# Altium schematic symbol library CustomComponents.SchLib: 74 symbols
Pins are listed as number, name and electrical type; pins without a type are passive.

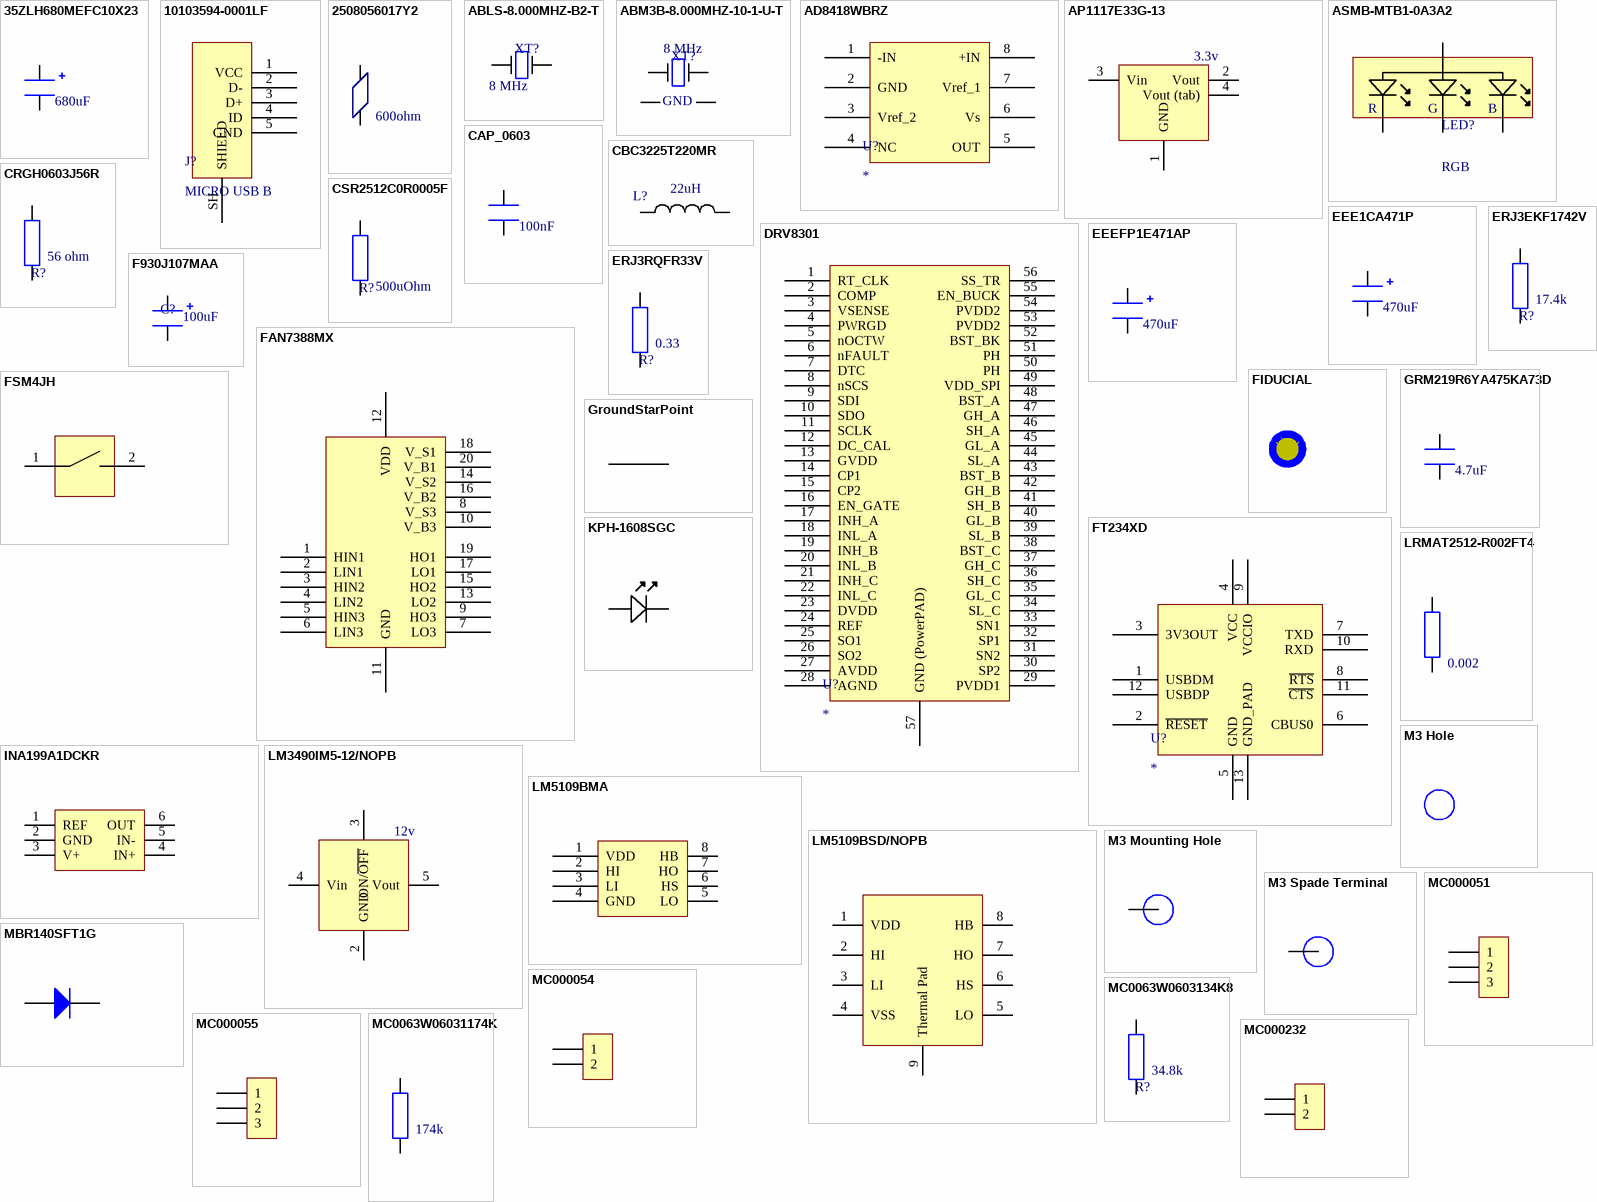
[diagram p0: symbols 35ZLH680MEFC10X23 to MC000232]

## 35ZLH680MEFC10X23
designator C?  value 680uF
CAP, ALU ELEC, 680UF, 35V, RAD; Supplier 1: Farnell; Supplier Part Number 1: 8126771
footprint CAPE10.0MM_Rad_10x14mm (10mm Pitch Radial Capacitor 10x14mm DxH)
pins: 1, 2

## 10103594-0001LF
designator J?, comment MICRO USB B
MICRO USB B, RECEPTACLE, SMT, RA, 5WAY; Supplier 1: Farnell; Supplier Part Number 1: 2293752
footprint USB_0103594-0001LF (Micro USB B connector)
pins: 1 VCC, 2 D-, 3 D+, 4 ID, 5 GND, SH SHIELD

## 2508056017Y2
designator L?  value 600ohm
FERRITE BEAD, 0.1OHM, 2A, 0805; Supplier 1: Farnell; Supplier 2: Farnell; Supplier Part Number 1: 1838838; Supplier Part Number 2: 1838838RL
footprint FBC2012N (Ferrite Bead Chip, Body 2.0x1.2mm, 0805, IPC Medium Density)
pins: 1, 2

## ABLS-8.000MHZ-B2-T
designator XT?  value 8 MHz  (hidden comment: *)
Crystal 8.0000MHz 20ppm 18pF 80 Ohm -20°C - 70°C Surface Mount HC49/US
footprint CRYSTAL_HC49-US-SM (SMD Crystal HC49/US-SM package)
pins: 1 IN, 2 OUT

## ABM3B-8.000MHZ-10-1-U-T
designator XT?  value 8 MHz  (hidden comment: *)
Crystal 8MHz ±10ppm 10pF 200 Ohm -10°C ~ 60°C Surface Mount 4-SMD, No Lead (DFN, LCC)
footprint DFN220P320X110-4N (DFN, 4-Leads, Body 5.00x3.20mm, Pitch 2.20mm, IPC Medium Density)
pins: 1, 2, 3, 4
text: GND

## AD8418WBRZ
designator U?
ANALOG DEVICES Current Sense Amplifier, Bidirectional, 1, 130 µA, NSOIC
footprint SOIC127P600X175-8N (SOIC, 8-Leads, Body 4.90x3.90mm, Pitch 1.27mm, IPC Medium Density)
pins: 1 -IN, 2 GND, 3 Vref_2, 4 NC, 5 OUT, 6 Vs, 7 Vref_1, 8 +IN

## AP1117E33G-13
designator U?  value 3.3v
IC, LDO, REG, 3.3V, SOT223; Supplier 1: Farnell; Supplier 2: Farnell; Supplier Part Number 1: 1825291RL; Supplier Part Number 2: 1825291
footprint SOT223 (SOT223 /SC-73)
pins: 1 GND, 2 Vout, 3 Vin, 4 Vout (tab)

## ASMB-MTB1-0A3A2
designator LED?, comment RGB
LED, HB, RGB, 0.09W, PLCC-4; Supplier 1: Farnell; Supplier Part Number 1: 2401106
footprint ASMB-MTB1
pins: 1 R, 2 G, 3 B, 4 A

## CAP_0603
designator C?, comment value 100nF  (hidden comment: General 0603 capacitor)
CAP General 0603
footprint 1608[0603] (Chip Capacitor, Body 1.6x0.8mm, IPC High Density)
pins: 1, 2

## CBC3225T220MR
designator L?  value 22uH  (hidden comment: CBC3225T220MR)
Inductor 22uH, 780 ma, 351 mohm, 1210; Supplier 1: Digi-Key; Supplier Part Number 1: 587-1626-1-ND; Supplier 2: Mouser; Supplier Part Number 2: 963-CBC3225T220MR; Supplier 3: Farnell; Supplier Part Number 3: 2309152
pins: 1, 2

## CRGH0603J56R
designator R?  value 56 ohm
RESISTOR, POWER, 56R, 0.2W, 5%, 0603; Supplier 1: Farnell; Supplier 2: Farnell; Supplier Part Number 1: 2331709; Supplier Part Number 2: 2331709RL
footprint RESC1608X55N (Chip Resistor, Body 1.6x0.8mm, EIA 0603, IPC Medium Density)
pins: 1 0, 2 0

## CSR2512C0R0005F
designator R?  value 500uOhm  (hidden comment: CSR2512C0R0005F)
RES SMD 0.0005 OHM 1% 3W 2512
footprint RESC6432X09N (Chip Resistor, 2-Leads, Body 6.40x3.20mm, IPC Medium Density)
pins: 1 0, 2 0

## DRV8301
designator U?
MOTOR DRIVER, 3PH, 56HTSSOP
footprint TSSOP50P810X120_HS-57N (TSSOP, 56-Leads, Body 14.00x6.10mm, Pitch 0.50mm, Thermal Pad 6.35x3.61mm, IPC Medium Density)
pins: 1 RT_CLK, 2 COMP, 3 VSENSE, 4 PWRGD, 5 nOCTW, 6 nFAULT, 7 DTC, 8 nSCS, 9 SDI, 10 SDO, 11 SCLK, 12 DC_CAL, 13 GVDD, 14 CP1, 15 CP2, 16 EN_GATE, 17 INH_A, 18 INL_A, 19 INH_B, 20 INL_B, 21 INH_C, 22 INL_C, 23 DVDD, 24 REF, 25 SO1, 26 SO2, 27 AVDD, 28 AGND, 29 PVDD1, 30 SP2, 31 SN2, 32 SP1, 33 SN1, 34 SL_C, 35 GL_C, 36 SH_C, 37 GH_C, 38 BST_C, 39 SL_B, 40 GL_B, 41 SH_B, 42 GH_B, 43 BST_B, 44 SL_A, 45 GL_A, 46 SH_A, 47 GH_A, 48 BST_A, 49 VDD_SPI, 50 PH, 51 PH, 52 BST_BK, 53 PVDD2, 54 PVDD2, 55 EN_BUCK, 56 SS_TR, 57 GND (PowerPAD)

## EEE1CA471P
designator C?  value 470uF
CAP, ALU ELEC, 470UF, 16V, SMD; Supplier 1: Farnell; Supplier Part Number 1: 2326123RL; Supplier 2: Farnell; Supplier Part Number 2: 2326123
simulation model CAP (Capacitor)
signal-integrity model Cap
footprint CAP_ELEC_SIZE_G (Capacitor, polarized, aluminum can; 10.0x10.2mm DxH)
pins: 1, 2

## EEEFP1E471AP
designator C?  value 470uF
CAP, FP Series, 470 µF, 25 V, Radial Can - SMD, 10 mm
footprint CAP_ELEC_SIZE_G (Capacitor, polarized, aluminum can; 10.0x10.2mm DxH)
pins: 1, 2

## ERJ3EKF1742V
designator R?  value 17.4k
RESISTOR, 0603, 17K4 1%, 0.1W; Supplier 1: Farnell; Supplier 2: Farnell; Supplier Part Number 1: 2059427RL; Supplier Part Number 2: 2059427
footprint RESC1608X55N (Chip Resistor, Body 1.6x0.8mm, EIA 0603, IPC Medium Density)
pins: 1 0, 2 0

## ERJ3RQFR33V
designator R?  value 0.33
RESISTOR, 0603, 0.1W, 1%, 0R33; Supplier 1: Farnell; Supplier Part Number 1: 1717766RL; Supplier 2: Farnell; Supplier Part Number 2: 1717766
footprint RESC1608X55N (Chip Resistor, Body 1.6x0.8mm, EIA 0603, IPC Medium Density)
pins: 1 0, 2 0

## F930J107MAA
designator C?  value 100uF  (hidden comment: F930J107MAA)
CAP TANT 100UF 6.3V 20% 1206 2Ohm
footprint CAP_POL_1206 (Chip Capacitor, 2-Leads, Body 3.20x1.60mm, IPC Medium Density)
pins: 1, 2

## FAN7388MX
designator U?
MOSFET DRIVER, 3 HALF BRIDGE; Supplier 1: Farnell; Supplier Part Number 1: 2083876
footprint SOIC_20
pins: 1 HIN1, 2 LIN1, 3 HIN2, 4 LIN2, 5 HIN3, 6 LIN3, 7 LO3, 8 V_S3, 9 HO3, 10 V_B3, 11 GND, 12 VDD, 13 LO2, 14 V_S2, 15 HO2, 16 V_B2, 17 LO1, 18 V_S1, 19 HO1, 20 V_B1

## FIDUCIAL
designator FID?
1mm Fiducial with 2mm soldermask, 3mm keepout
footprint FIDUCIAL (1mm fiducial with 3mm keepout)

## FSM4JH
designator SW?
SWITCH, SPNO, 0.05A; Supplier 1: Farnell; Supplier Part Number 1: 1555982
footprint FSM4JH (SWITCH, SPNO, 0.05A)
pins: 1, 2

## FT234XD
designator U?
Supplier 1: Farnell; Supplier Part Number 1: 2419911
footprint SON45P300X90_HS-13N (SON, 12-Leads, Body 3.00x3.00mm, Pitch 0.45mm, Thermal Pad 2.48x1.58mm, IPC Medium Density)
pins: 1 USBDM, 2 ~{RESET}, 3 3V3OUT, 4 VCC, 5 GND, 6 CBUS0, 7 TXD, 8 ~{RTS}, 9 VCCIO, 10 RXD, 11 ~{CTS}, 12 USBDP, 13 GND_PAD

## GRM219R6YA475KA73D
designator C?  value 4.7uF  (hidden comment: *)
CAP CER 4.7UF 35V X5R 0805
footprint CAPC2012X09N (Chip Capacitor, 2-Leads, Body 2.00x1.25mm, IPC Medium Density)
pins: 1, 2

## GroundStarPoint
designator SP?, comment Star Point  (net tie, no BOM)
Wide star point meant for joining ground planes
footprint StarpointWide (Wide star point meant for connecting ground planes)
pins: 1, 2

## INA199A1DCKR
designator U?
CURRENT SENSE AMP, 50V/V, 80KHZ; Supplier 1: Digi-Key; Supplier Part Number 1: 296-27329-1-ND; Supplier 2: Mouser; Supplier Part Number 2: 595-INA199B1DCKT
footprint TSOP65P210X110-6N (TSOP, 6-Leads, Body 2.00x1.25mm, Pitch 0.65mm, IPC Medium Density)
pins: 1 REF, 2 GND, 3 V+, 4 IN+, 5 IN-, 6 OUT

## KPH-1608SGC
designator LED?, comment Green
LED, GREEN, 12MCD, 568NM, SMD; Supplier 1: Farnell; Supplier Part Number 1: 2426215
footprint LED-0603-GREEN
pins: A, K

## LM3490IM5-12/NOPB
designator U?  value 12v
LDO, FIXED, 12V, 0.1A, SOT-23-5; Supplier 1: Farnell; Supplier Part Number 1: 2382985
footprint SOT23-5
pins: 2 GND, 3 ON/~{OFF}, 4 Vin, 5 Vout

## LM5109BMA
designator U?
DRIVER, HALF BRIDGE, 1A PK, SOIC8
footprint SO8_N (SOIC, 8-Leads, Body 4.9x3.9mm, Pitch 1.27mm, IPC Medium Density)
pins: 1 VDD, 2 HI, 3 LI, 4 GND, 5 LO, 6 HS, 7 HO, 8 HB

## LM5109BSD/NOPB
designator U?
DRIVER, MOSFET, HALF BRIDGE, WSON-8, 1A; Supplier 1: Farnell; Supplier Part Number 1: 2400642RL; Supplier 2: Farnell; Supplier Part Number 2: 2400642; Supplier 3: Farnell; Supplier Part Number 3: 2382850
footprint SON80P400X80_HS-9N (SON, 8-Leads, Body 4.00x4.00mm, Pitch 0.80mm, Thermal Pad 3.00x2.49mm, IPC Medium Density)
pins: 1 VDD, 2 HI, 3 LI, 4 VSS, 5 LO, 6 HS, 7 HO, 8 HB, 9 Thermal Pad

## LRMAT2512-R002FT4
designator R?  value 0.002
Shunt Resistor R002; Supplier 1: Farnell; Supplier Part Number 1: 2079420RL; Supplier 2: Farnell; Supplier Part Number 2: 2079420
footprint R 2512 [6432 Metric]
pins: 1 0, 2 0

## M3 Hole
designator H?, comment M3
M3 Hole with no copper
footprint M3 Hole (M3 Hole with no copper)

## M3 Mounting Hole
designator J?, comment M3
M3 Mounting Hole
footprint M3 Mounting Hole
pins: 1

## M3 Spade Terminal
designator J?, comment M3
M3 Spade Terminal
footprint M3 Spade Hole
pins: 1

## MBR140SFT1G
designator D?
Rectifier Diode, Single, 40 V, 1 A, SOD-123FL, 2, 550 mV
footprint DIOM2717X10N (Molded Diode, 2-Leads, Body 2.70x1.65mm, IPC Medium Density)
pins: A, K

## MC000051
designator J?
TERMINAL BLOCK, WIRE TO BRD, 3POS, 10AWG; Supplier 1: Farnell; Supplier Part Number 1: 2008022
footprint MC000051 (TERMINAL BLOCK, WIRE TO BRD, 3POS, 10AWG)
pins: 1, 2, 3

## MC000054
designator J?
MULTICOMP Wire-To-Board Terminal Block, 2, 600 V, 30 A, 24 AWG, 10 AWG
footprint MC000054 (MULTICOMP  Wire-To-Board Terminal Block, 2, 600 V, 30 A, 24 AWG, 10 AWG)
pins: 1, 2

## MC000055
designator J?
MULTICOMP Wire-To-Board Terminal Block, 3, 600 V, 30 A, 24 AWG, 10 AWG
footprint MC000055 (Multicomp Wire-To-Board Terminal Block, 3, 600 V, 30 A, 24 AWG, 10 AWG)
pins: 1, 2, 3

## MC0063W0603134K8
designator R?  value 34.8k
RESISTOR, 34K8, 0.063W, 1%, 0603; Supplier 1: Farnell; Supplier Part Number 1: 2130982
footprint RESC1608X55N (Chip Resistor, Body 1.6x0.8mm, EIA 0603, IPC Medium Density)
pins: 1 0, 2 0

## MC0063W06031174K
designator R?  value 174k
Resistor, 174k, 0603; Supplier 1: Farnell; Supplier Part Number 1: 1171009RL; Supplier 2: Farnell; Supplier Part Number 2: 1171009
footprint RESC1608X55N (Chip Resistor, Body 1.6x0.8mm, EIA 0603, IPC Medium Density)
pins: 1 0, 2 0

## MC000232
designator J?
TERMINAL BLOCK, WIRE TO BRD, 2POS, 6AWG; Supplier 1: Farnell; Supplier Part Number 1: 2008224
footprint MC000232 (TERMINAL BLOCK, WIRE TO BRD, 2POS, 6AWG)
pins: 1, 2

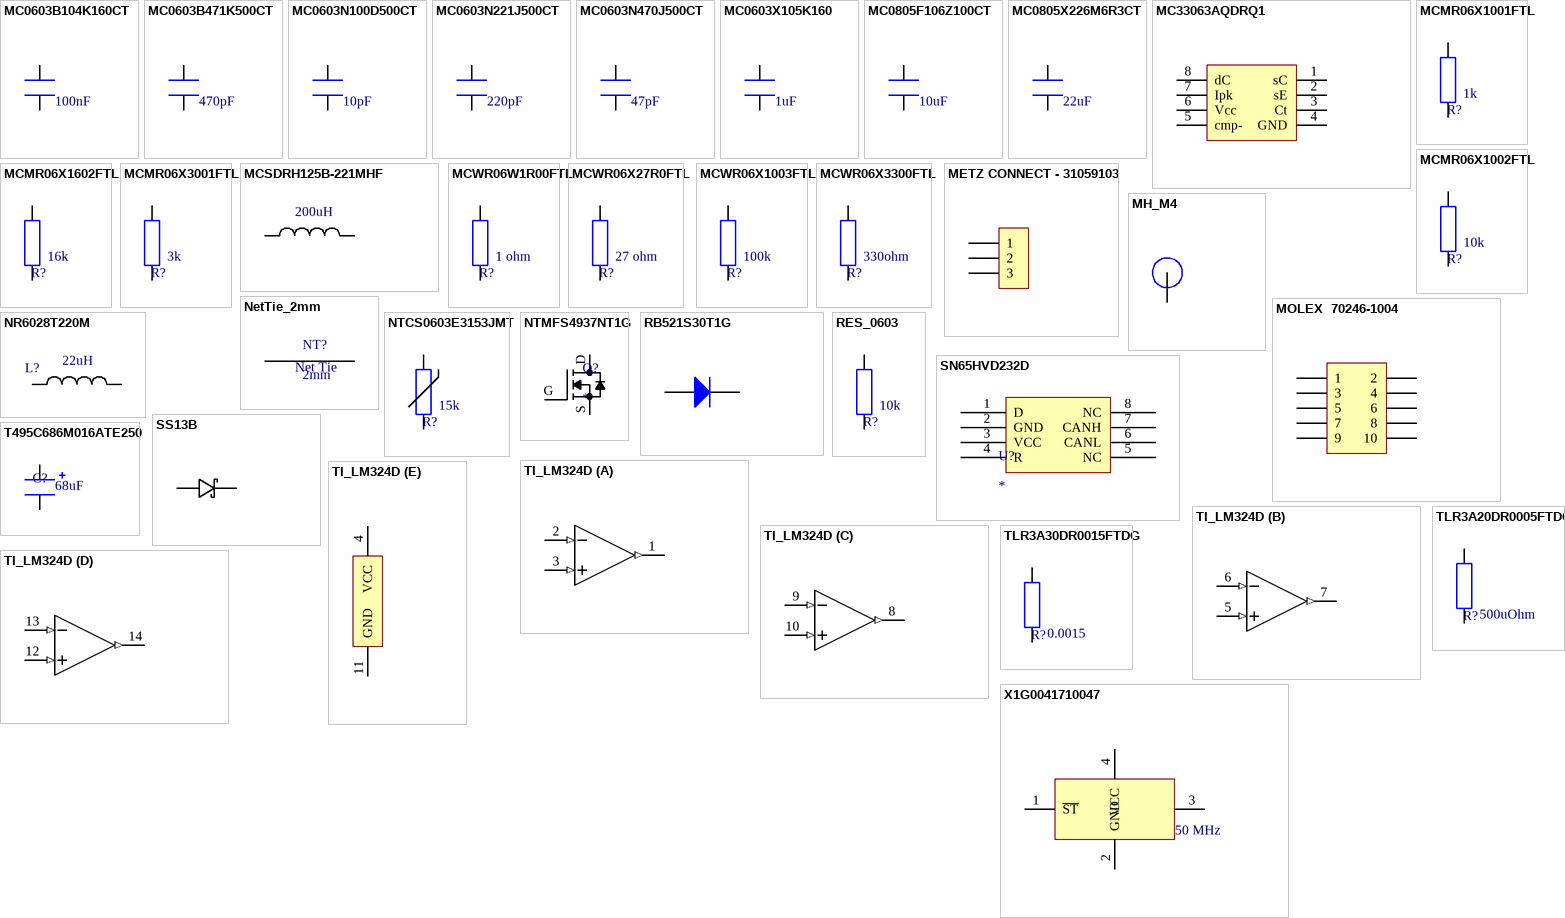
[diagram p1: symbols MC0603B104K160CT to X1G0041710047]

## MC0603B104K160CT
designator C?  value 100nF
CAP, MLCC, X7R, 100NF, 16V, 0603; Supplier 1: Farnell; Supplier Part Number 1: 2310628; Supplier 2: Farnell; Supplier Part Number 2: 1759016RL; Supplier 3: Farnell; Supplier Part Number 3: 1759016
simulation model CAP (Capacitor)
signal-integrity model Cap
footprint 1608[0603] (Chip Capacitor, Body 1.6x0.8mm, IPC High Density)
pins: 1, 2

## MC0603B471K500CT
designator C?  value 470pF
CAP, MLCC, X7R, 470PF, 50V, 0603; Supplier 1: Farnell; Supplier Part Number 1: 1759079RL; Supplier 2: Farnell; Supplier Part Number 2: 2310617; Supplier 3: Farnell; Supplier Part Number 3: 1759079
simulation model CAP (Capacitor)
signal-integrity model Cap
footprint 1608[0603] (Chip Capacitor, Body 1.6x0.8mm, IPC High Density)
pins: 1, 2

## MC0603N100D500CT
designator C?  value 10pF
CAP, MLCC, C0G/NP0, 10PF, 50V, 0603; Supplier 1: Farnell; Supplier Part Number 1: 2408550; Supplier 2: Farnell; Supplier Part Number 2: 1759768; Supplier 3: Farnell; Supplier Part Number 3: 1759053RL; Supplier 4: Farnell; Supplier Part Number 4: 1759053
simulation model CAP (Capacitor)
signal-integrity model Cap
footprint 1608[0603] (Chip Capacitor, Body 1.6x0.8mm, IPC High Density)
pins: 1, 2

## MC0603N221J500CT
designator C?  value 220pF
CAP, MLCC, C0G/NP0, 220PF, 50V, 0603; Supplier 1: Farnell; Supplier Part Number 1: 1759071RL; Supplier 2: Farnell; Supplier Part Number 2: 2310581; Supplier 3: Farnell; Supplier Part Number 3: 1759071
simulation model CAP (Capacitor)
signal-integrity model Cap
footprint 1608[0603] (Chip Capacitor, Body 1.6x0.8mm, IPC High Density)
pins: 1, 2

## MC0603N470J500CT
designator C?  value 47pF
CAP, MLCC, C0G/NP0, 47PF, 50V, 0603; Supplier 1: Farnell; Supplier Part Number 1: 1759062
simulation model CAP (Capacitor)
signal-integrity model Cap
footprint 1608[0603] (Chip Capacitor, Body 1.6x0.8mm, IPC High Density)
pins: 1, 2

## MC0603X105K160
designator C?  value 1uF
CAP, MLCC, X5R, 1UF, 16V, 0603; Supplier 1: Farnell; Supplier Part Number 1: 2310630; Supplier 2: Farnell; Supplier Part Number 2: 1759407RL; Supplier 3: Farnell; Supplier Part Number 3: 1759407
simulation model CAP (Capacitor)
signal-integrity model Cap
footprint 1608[0603] (Chip Capacitor, Body 1.6x0.8mm, IPC High Density)
pins: 1, 2

## MC0805F106Z100CT
designator C?  value 10uF
CAP, MLCC, Y5V, 10UF, 0805; Supplier 1: Farnell; Supplier Part Number 1: 2408565; Supplier 2: Farnell; Supplier Part Number 2: 1759421; Supplier 3: Farnell; Supplier Part Number 3: 1759421RL; Supplier 4: Farnell; Supplier Part Number 4: 1760155
simulation model CAP (Capacitor)
signal-integrity model Cap
footprint CAPC2012X135N (Chip Capacitor, Body 2.0x1.2mm, EIA 0805, IPC Medium Density)
pins: 1, 2

## MC0805X226M6R3CT
designator C?  value 22uF
CAP, MLCC, X5R, 22UF, 0805; Supplier 1: Farnell; Supplier Part Number 1: 1759415RL; Supplier 2: Farnell; Supplier Part Number 2: 2408577; Supplier 3: Farnell; Supplier Part Number 3: 1759415; Supplier 4: Farnell; Supplier Part Number 4: 1760148
simulation model CAP (Capacitor)
signal-integrity model Cap
footprint CAPC2012X135N (Chip Capacitor, Body 2.0x1.2mm, EIA 0805, IPC Medium Density)
pins: 1, 2

## MC33063AQDRQ1
designator U?
DC-DC CONV, BOOST/BUCK/INVERTING, SOIC-8; Supplier 1: Farnell; Supplier Part Number 1: 2323541
footprint SO8_N (SOIC, 8-Leads, Body 4.9x3.9mm, Pitch 1.27mm, IPC Medium Density)
pins: 1 sC, 2 sE, 3 Ct, 4 GND, 5 cmp-, 6 Vcc, 7 Ipk, 8 dC

## MCMR06X1001FTL
designator R?  value 1k
RESISTOR, CERAMIC, 1K, 0.1W, 1%; Supplier 1: Farnell; Supplier Part Number 1: 2073348; Supplier 2: Farnell; Supplier Part Number 2: 2073348RL
footprint RESC1608X55N (Chip Resistor, Body 1.6x0.8mm, EIA 0603, IPC Medium Density)
pins: 1 0, 2 0

## MCMR06X1002FTL
designator R?  value 10k
Resistor, 10k, 0603; Supplier 1: Farnell; Supplier Part Number 1: 2073349; Supplier 2: Farnell; Supplier Part Number 2: 2073349RL
footprint RESC1608X06L (Chip Resistor, 2-Leads, Body 1.60x0.80mm, IPC High Density)
pins: 1 0, 2 0

## MCMR06X1602FTL
designator R?  value 16k
RESISTOR, 0603, 16K, 1%; Supplier 1: Farnell; Supplier Part Number 1: 2073400; Supplier 2: Farnell; Supplier Part Number 2: 2073400RL
footprint RESC1608X55N (Chip Resistor, Body 1.6x0.8mm, EIA 0603, IPC Medium Density)
pins: 1 0, 2 0

## MCMR06X3001FTL
designator R?  value 3k
RESISTOR, 0603, 3K, 1%, ANTI SULFUR; Supplier 1: Farnell; Supplier Part Number 1: 2073461; Supplier 2: Farnell; Supplier Part Number 2: 2073461RL
footprint RESC1608X55N (Chip Resistor, Body 1.6x0.8mm, EIA 0603, IPC Medium Density)
pins: 1 0, 2 0

## MCSDRH125B-221MHF
designator L?  value 200uH
INDUCTOR, 220µH, 20%, 2PINS; Supplier 1: Farnell; Supplier Part Number 1: 1864461
footprint Inductor 12x12mm
pins: 1, 2

## MCWR06W1R00FTL
designator R?  value 1 ohm
RES, THICK FILM, 1OHM, 1%, 0.1W; Supplier 1: Farnell; Supplier 2: Farnell; Supplier Part Number 1: 2447289; Supplier Part Number 2: 2447289RL
footprint RESC1608X55N (Chip Resistor, Body 1.6x0.8mm, EIA 0603, IPC Medium Density)
pins: 1 0, 2 0

## MCWR06X27R0FTL
designator R?  value 27 ohm
RES, THICK FILM, 27OHM, 1%, 0.1W; Supplier 1: Farnell; Supplier Part Number 1: 2447316
footprint RESC1608X55N (Chip Resistor, Body 1.6x0.8mm, EIA 0603, IPC Medium Density)
pins: 1 0, 2 0

## MCWR06X1003FTL
designator R?  value 100k
RES, THICK FILM, 100KOHM, 1%, 0.1W; Supplier 1: Farnell; Supplier Part Number 1: 2446543; Supplier 2: Farnell; Supplier Part Number 2: 2447226
footprint RESC1608X55N (Chip Resistor, Body 1.6x0.8mm, EIA 0603, IPC Medium Density)
pins: 1 0, 2 0

## MCWR06X3300FTL
designator R?  value 330ohm
RES, THICK FILM, 330 OHM, 1%, 0.1W; Supplier 1: Farnell; Supplier Part Number 1: 2446656; Supplier 2: Farnell; Supplier Part Number 2: 2447339
footprint RESC1608X06L (Chip Resistor, 2-Leads, Body 1.60x0.80mm, IPC High Density)
pins: 1 0, 2 0

## METZ CONNECT - 31059103
designator J?
TERMINAL BLOCK, PCB, 3POS, 28-16AWG
footprint METZ CONNECT - 31059103 (TERMINAL BLOCK, PCB, 3POS, 28-16AWG)
pins: 1, 2, 3

## MH_M4
designator MH?, comment M4
M4 Mounting Hole
footprint MH_M4 (Plated and viad M4 mounting hole)
pins: 1

## MOLEX  70246-1004
designator J?
HEADER, SHROUDED, 10WAY, JTAG; Supplier 1: Farnell; Supplier Part Number 1: 1392408
footprint 10P_PCB_HEADER_BRD_MNT (HEADER BRD MNT 10POS 2.54MM)
pins: 1, 2, 3, 4, 5, 6, 7, 8, 9, 10

## NetTie_2mm
designator NT?, comment 2mm  (net tie, no BOM)
footprint NetTie_2mm (Net tie, 2mm round)
pins: 1, 2
text: Net Tie

## NR6028T220M
designator L?  value 22uH  (hidden comment: NR6028T220M)
INDUCTOR 22UH 1.4A 175.5 MOHM
footprint INDC6060X28N (Chip Inductor, 2-Leads, Body 6.00x6.00mm, IPC Medium Density)
pins: 1, 2

## NTCS0603E3153JMT
designator R?  value 15k
THERMISTOR, 15K, 5%, SMD, NTC; Supplier 1: Farnell; Supplier Part Number 1: 2103168
footprint RESC1608X06L (Chip Resistor, 2-Leads, Body 1.60x0.80mm, IPC High Density)
pins: 1 0, 2 0

## NTMFS4937NT1G
designator Q?
MOSFET, N CH, 30V, 70A, SO-8 FL; Supplier 1: Farnell; Supplier Part Number 1: 2317605; Supplier 2: Farnell; Supplier Part Number 2: 2317605RL
footprint SO8FL (DFN5 5x6, 1.27P  (SO-8FL)  CASE 488AA)
footprint SO8FL_FILL (DFN5 5x6, 1.27P  (SO-8FL)  CASE 488AA. Full solder paste)
pins: D, G, S

## RB521S30T1G
designator D?
DIODE, SCHOTTKY, 200MA, 30V; Supplier 1: Farnell; Supplier Part Number 1: 2317433
footprint SOD523F (SOD-523F; 2 Leads; Body 1.3 x 0.9 mm, (LxW))
pins: A, K

## RES_0603
designator R?  value 10k
RES General 1% 0603
footprint RESC1608X55N (Chip Resistor, Body 1.6x0.8mm, EIA 0603, IPC Medium Density)
pins: 1 0, 2 0

## SN65HVD232D
designator U?
footprint SOIC127P600X175-8N (SOIC, 8-Leads, Body 4.90x3.90mm, Pitch 1.27mm, IPC Medium Density)
pins: 1 D, 2 GND, 3 VCC, 4 R, 5 NC, 6 CANL, 7 CANH, 8 NC

## SS13B
designator D?
DIODE, SCHOTTK, RECTIF, 1A, 30V, SMB; Supplier 1: Farnell; Supplier Part Number 1: 1861425
footprint DO-214AA (JEDEC DO214 variation AA. SMB)
pins: A, K

## T495C686M016ATE250
designator C?  value 68uF  (hidden comment: T495C686M016ATE250)
CAP TANT 68UF 16V 20% 2312 250mOhm
footprint CAPCP6032X28N (Chip Capacitor, 2-Leads, Body 6.00x3.20mm, IPC Medium Density)
pins: 1, 2

## TI_LM324D
designator OP?
OP-AMP, 1.2MHZ, 0.5V/US; Supplier 1: Farnell; Supplier Part Number 1: 2323279
footprint SOIC_14
part A pins: 1 OUT (out), 2 IN- (in), 3 IN+ (in)
part B pins: 5 IN+ (in), 6 IN- (in), 7 OUT (out)
part C pins: 8 OUT (out), 9 IN- (in), 10 IN+ (in)
part D pins: 12 IN+ (in), 13 IN- (in), 14 OUT (out)
part E pins: 4 VCC, 11 GND

## TLR3A20DR0005FTDG
designator R?  value 500uOhm
RESISTOR, R0005, 2.0W, 1%; Supplier 1: Farnell; Supplier Part Number 1: 2116011
footprint RESC6332X70N (Chip Resistor, Body 6.3x3.2mm, 2512, IPC Medium Density)
pins: 1 0, 2 0

## TLR3A30DR0015FTDG
designator R?  value 0.0015
Shunt Resistor R0015; Supplier 1: Farnell; Supplier Part Number 1: 2116032RL; Supplier 2: Farnell; Supplier Part Number 2: 2116032
footprint RESC6332X70N (Chip Resistor, Body 6.3x3.2mm, 2512, IPC Medium Density)
pins: 1 0, 2 0

## X1G0041710047
designator X?  value 50 MHz
OSCILLATOR, SPXO, SG-210STF, 50 MHZ, SMD; Supplier 1: Farnell; Supplier Part Number 1: 2405741RL; Supplier 2: Farnell; Supplier Part Number 2: 2405741; Supplier 3: Farnell; Supplier Part Number 3: 2428451
footprint SPXO SG-210STF
pins: 1 ~{ST} "Pull high or open to run, pull low to stop", 2 GND, 3 CLKout, 4 VCC